# Altium schematic symbol library 分立器件.SchLib: 215 symbols (part 2 of 2)
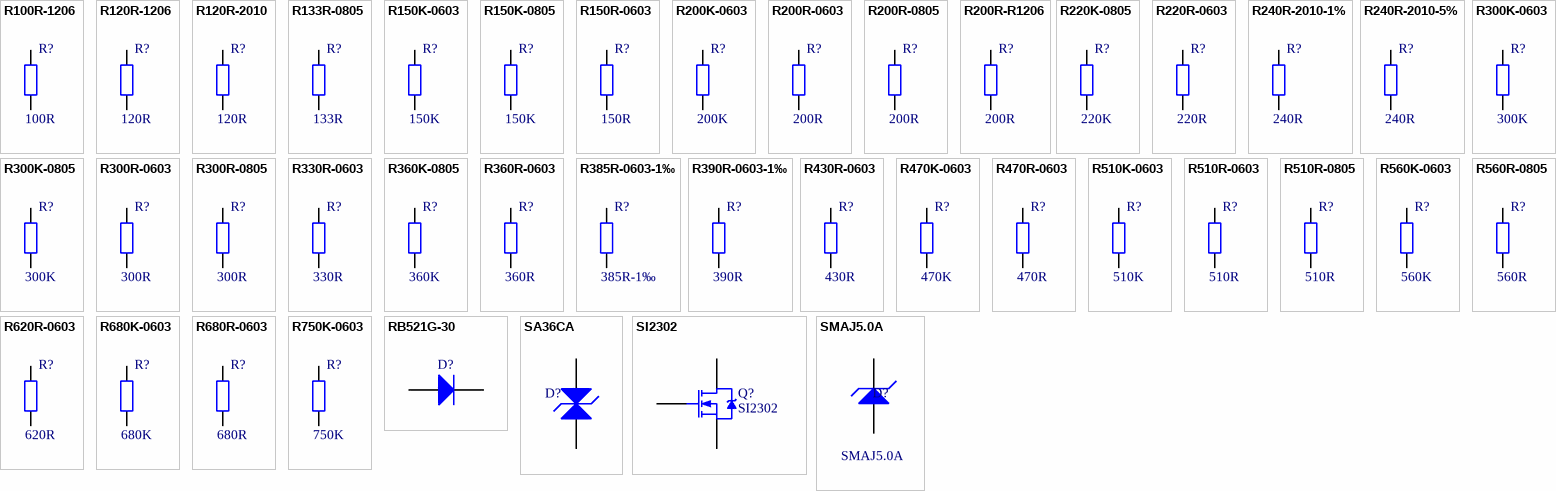
[diagram p6: symbols R100R-1206 to SMAJ5.0A]

## R200R-0805
designator R?  value 200R  (hidden comment: *)
Pb-free,0805,200Ω,1%,1/8W,±100PPM,100V,-55℃～155℃; Part Number: 3DZ0030033; specification: Pb-free,0805,200Ω,1%,1/8W,±100PPM,100V,-55℃～155℃
footprint R0805L (Footprint not found)
pins: 1, 2

## R200R-R1206
designator R?  value 200R  (hidden comment: *)
Pb-free,1206,200Ω,5%,1/4W,±200PPM,200V,-55℃～155℃; Part Number: 3DZ0030088; specification: Pb-free,1206,200Ω,5%,1/4W,±200PPM,200V,-55℃～155℃
footprint R1206L (Footprint not found)
pins: 1, 2

## R220K-0805
designator R?  value 220K  (hidden comment: *)
Pb-free,0805,220kΩ,1%,1/8W,±100PPM,100V,-55℃～155℃; Part Number: 3DZ0030036; specification: Pb-free,0805,220kΩ,1%,1/8W,±100PPM,100V,-55℃～155℃
footprint R0805L (Footprint not found)
pins: 1, 2

## R220R-0603
designator R?  value 220R  (hidden comment: *)
Pb-free, 0603,220Ω, 1%, 1/16w, ±200PPM, 50V,-55℃～155℃; Part Number: 3DZ0030037; specification: Pb-free, 0603,220Ω, 1%, 1/16w, ±200PPM, 50V,-55℃～155℃
footprint R0603L (Chip Inductor; Body 1.6x0.8mm (LxW typ))
pins: 1, 2

## R240R-2010-1%
designator R?  value 240R  (hidden comment: *)
Pb-free,2010,240Ω,1%,1W,±100PPM,200V,-55℃～155℃; Part Number: 3DZ0030104; specification: Pb-free,2010,240Ω,1%,1W,±100PPM,200V,-55℃～155℃
footprint R2010L (Footprint not found)
pins: 1, 2

## R240R-2010-5%
designator R?  value 240R  (hidden comment: *)
Pb-free,2010,240Ω,5%,1W,±100PPM,200V,-55℃～155℃; Part Number: 3DZ0030100; specification: Pb-free,2010,240Ω,5%,1W,±100PPM,200V,-55℃～155℃
footprint R2010L (Footprint not found)
pins: 1, 2

## R300K-0603
designator R?  value 300K  (hidden comment: *)
Pb-free, 0603, 300kΩ, 1%, 1/16w, ±200PPM, 50V,-55℃～155℃; Part Number: 3DZ0030043; specification: Pb-free, 0603, 300kΩ, 1%, 1/16w, ±200PPM, 50V,-55℃～155℃
footprint R0603L (Chip Inductor; Body 1.6x0.8mm (LxW typ))
pins: 1, 2

## R300K-0805
designator R?  value 300K  (hidden comment: *)
Pb-free,0805,300kΩ,1%,1/8W,±100PPM,100V,-55℃～155℃; Part Number: 3DZ0030044; specification: Pb-free,0805,300kΩ,1%,1/8W,±100PPM,100V,-55℃～155℃
footprint R0805L (Footprint not found)
pins: 1, 2

## R300R-0603
designator R?  value 300R  (hidden comment: *)
Pb-free,0603,300Ω,1%,1/16w,±200PPM,50V,-55℃～155℃; Part Number: 3DZ0030045; specification: Pb-free,0603,300Ω,1%,1/16w,±200PPM,50V,-55℃～155℃
footprint R0603L (Chip Inductor; Body 1.6x0.8mm (LxW typ))
pins: 1, 2

## R300R-0805
designator R?  value 300R  (hidden comment: *)
Pb-free,0805,300Ω,1%,1/8W,±100PPM,100V,-55℃～155℃; Part Number: 3DZ0030046; specification: Pb-free,0805,300Ω,1%,1/8W,±100PPM,100V,-55℃～155℃
footprint R0805L (Footprint not found)
pins: 1, 2

## R330R-0603
designator R?  value 330R  (hidden comment: *)
Pb-free,0603,330Ω,1%,1/16w,±200PPM,50V,-55℃～155℃; Part Number: 3DZ0030077; specification: Pb-free,0603,330Ω,1%,1/16w,±200PPM,50V,-55℃～155℃
footprint R0603L (Chip Inductor; Body 1.6x0.8mm (LxW typ))
pins: 1, 2

## R360K-0805
designator R?  value 360K  (hidden comment: *)
Pb-free,0603,360kΩ,1%,1/16w,±200PPM,50V,-55℃～155℃; Part Number: 3DZ0030048; specification: Pb-free,0603,360kΩ,1%,1/16w,±200PPM,50V,-55℃～155℃
footprint R0805L (Footprint not found)
pins: 1, 2

## R360R-0603
designator R?  value 360R  (hidden comment: *)
Pb-free,0603,360Ω,1%,1/16W,±100PPM,50V,-55℃～155℃; Part Number: 3DZ0030102; specification: Pb-free,0603,360Ω,1%,1/16W,±100PPM,50V,-55℃～155℃
footprint R0603L (Chip Inductor; Body 1.6x0.8mm (LxW typ))
pins: 1, 2

## R385R-0603-1‰
designator R?  value 385R-1‰  (hidden comment: R385R-0603-1‰)
Pb-free,贴片高精密电阻,385Ω,0603,±1‰,1/16W,±50PPM,50V,-55℃～155℃; Part Number: 3DZ0032001; specification: Pb-free,贴片高精密电阻,385Ω,0603,±1‰,1/16W,±50PPM,50V,-55℃～155℃
footprint R0603L (Footprint not found)
pins: 1, 2

## R390R-0603-1‰
designator R?  value 390R  (hidden comment: R390R-0603-1‰)
Pb-free,贴片高精密电阻,390Ω,0603,±1‰,1/16W,±50PPM,50V,-55℃～155℃; Part Number: 3DZ0032004; specification: Pb-free,贴片高精密电阻,390Ω,0603,±1‰,1/16W,±50PPM,50V,-55℃～155℃
footprint R0603L (Footprint not found)
pins: 1, 2

## R430R-0603
designator R?  value 430R  (hidden comment: *)
Pb-free,0603,430Ω,1%,1/16W,±200PPM,50V,-55℃～155℃; Part Number: 3DZ0030095; specification: Pb-free,0603,430Ω,1%,1/16W,±200PPM,50V,-55℃～155℃
footprint R0603L (Chip Inductor; Body 1.6x0.8mm (LxW typ))
pins: 1, 2

## R470K-0603
designator R?  value 470K  (hidden comment: *)
Pb-free,0603,470kΩ,1%,1/16w,±200PPM,50V,-55℃～155℃; Part Number: 3DZ0030053; specification: Pb-free,0603,470kΩ,1%,1/16w,±200PPM,50V,-55℃～155℃
footprint R0603L (Chip Inductor; Body 1.6x0.8mm (LxW typ))
pins: 1, 2

## R470R-0603
designator R?  value 470R  (hidden comment: *)
Pb-free,0603,470Ω,1%,1/16w,±200PPM,50V,-55℃～155℃; Part Number: 3DZ0030107; specification: Pb-free,0603,470Ω,1%,1/16w,±200PPM,50V,-55℃～155℃
footprint R0603L (Chip Inductor; Body 1.6x0.8mm (LxW typ))
pins: 1, 2

## R510K-0603
designator R?  value 510K  (hidden comment: *)
Pb_free,0603,510K,1%,1/16W,±200PPM,50V,-55℃～155℃; Part Number: 3DZ0030093; specification: Pb_free,0603,510K,1%,1/16W,±200PPM,50V,-55℃～155℃
footprint R0603L (Chip Inductor; Body 1.6x0.8mm (LxW typ))
pins: 1, 2

## R510R-0603
designator R?  value 510R  (hidden comment: *)
Pb-free,0603,510Ω,1%,1/16w,±200PPM,50V,-55℃～155℃; Part Number: 3DZ0030058; specification: Pb-free,0603,510Ω,1%,1/16w,±200PPM,50V,-55℃～155℃
footprint R0603L (Chip Inductor; Body 1.6x0.8mm (LxW typ))
pins: 1, 2

## R510R-0805
designator R?  value 510R  (hidden comment: *)
Pb-free,0805,510Ω,1%,1/8W,±100PPM,100V,-55℃～155℃; Part Number: 3DZ0030059; specification: Pb-free,0805,510Ω,1%,1/8W,±100PPM,100V,-55℃～155℃
footprint R0805L (Footprint not found)
pins: 1, 2

## R560K-0603
designator R?  value 560K  (hidden comment: *)
Pb-free,0603,560kΩ,1%,1/16w,±200PPM,50V,-55℃～155℃; Part Number: 3DZ0030086; specification: Pb-free,0603,560kΩ,1%,1/16w,±200PPM,50V,-55℃～155℃
footprint R0603L (Chip Inductor; Body 1.6x0.8mm (LxW typ))
pins: 1, 2

## R560R-0805
designator R?  value 560R  (hidden comment: *)
Pb-free,0805,560Ω,1%,1/8W,±100PPM,100V,-55℃～155℃; Part Number: 3DZ0030063; specification: Pb-free,0805,560Ω,1%,1/8W,±100PPM,100V,-55℃～155℃
footprint R0805L (Footprint not found)
pins: 1, 2

## R620R-0603
designator R?  value 620R  (hidden comment: *)
Pb-free,0603,620Ω,1%,1/16w,±200PPM,50V,-55℃～155℃; Part Number: 3DZ0030068; specification: Pb-free,0603,620Ω,1%,1/16w,±200PPM,50V,-55℃～155℃
footprint R0603L (Chip Inductor; Body 1.6x0.8mm (LxW typ))
pins: 1, 2

## R680K-0603
designator R?  value 680K  (hidden comment: *)
Pb-free,0603,680kΩ,1%,1/16w,±200PPM,50V,-55℃～155℃; Part Number: 3DZ0030091; specification: Pb-free,0603,680kΩ,1%,1/16w,±200PPM,50V,-55℃～155℃
footprint R0603L (Chip Inductor; Body 1.6x0.8mm (LxW typ))
pins: 1, 2

## R680R-0603
designator R?  value 680R  (hidden comment: *)
Pb-free,0603,680Ω,1%,1/16w,±200PPM,50V,-55℃～155℃; Part Number: 3DZ0030069; specification: Pb-free,0603,680Ω,1%,1/16w,±200PPM,50V,-55℃～155℃
footprint R0603L (Chip Inductor; Body 1.6x0.8mm (LxW typ))
pins: 1, 2

## R750K-0603
designator R?  value 750K  (hidden comment: *)
Pb-free,0603,750kΩ,1%,1/16w,±200PPM,50V,-55℃～155℃; Part Number: 3DZ0030089; specification: Pb-free,0603,750kΩ,1%,1/16w,±200PPM,50V,-55℃～155℃
footprint R0603L (Chip Inductor; Body 1.6x0.8mm (LxW typ))
pins: 1, 2

## RB521G-30
designator D?  (value not drawn)
Pb-free,贴片二极管,RB521G-30,VR=30V,Io=100mA,Ifsm（60Hz·1cyc）=500mA,Tj=125℃,Tstg=-40~+125℃,SOD-523; Part Number: 3DZ0060005; Value: RB521G-30; specification: Pb-free,贴片二极管,RB521G-30,VR=30V,Io=100mA,Ifsm（60Hz·1cyc）=500mA,Tj=125℃,Tstg=-40~+125℃,SOD-523
footprint SOD523
pins: 1 A, 2 K

## SA36CA
designator D?  (value not drawn)
Pb-free,直插瞬态抑制二极管,SA36CA,Vrm=36V,Vbr=40～44.2V,Ppk=500W,Ifsm=70A,DO-15,-55～150℃; Part Number: 3DZ0061003; Value: SA36CA; specification: Pb-free,直插瞬态抑制二极管,SA36CA,Vrm=36V,Vbr=40～44.2V,Ppk=500W,Ifsm=70A,DO-15,-55～150℃
footprint DO-15H
pins: 1 A, 2 K

## SI2302
designator Q?
Pb-free,场效应管,SI2302,N沟道,Vds=20V,Vgs=+8V,ID=2.8A,0.07Ω,SOT23,–55~+150℃; Part Number: 3DZ0065102; Value: SI2302; Specification: Pb-free,场效应管,SI2302,N沟道,Vds=20V,Vgs=+8V,ID=2.8A,0.07Ω,SOT23,–55~+150℃
footprint SOT23A (SOT-23; 3 Leads; Body 3.0 x 2.5 mm, inc. leads (LxW max))
pins: 1 G, 2 S, 3 D

## SMAJ5.0A
designator D?
Pb-free,贴片瞬态抑制二极管,SMAJ5.0A,Vrm=5.0V,Vbr=6.4～7.25V,Ppk=400W,Ifsm=40A,SMA(DO-214AC),-55～150℃; Part Number: 3DZ0060104; Specification: Pb-free,贴片瞬态抑制二极管,SMAJ5.0A,Vrm=5.0V,Vbr=6.4～7.25V,Ppk=400W,Ifsm=40A,SMA(DO-214AC),-55～150℃; Value: SMAJ5.0A
footprint DO-214AC(SMA)
pins: 1 A, 2 K

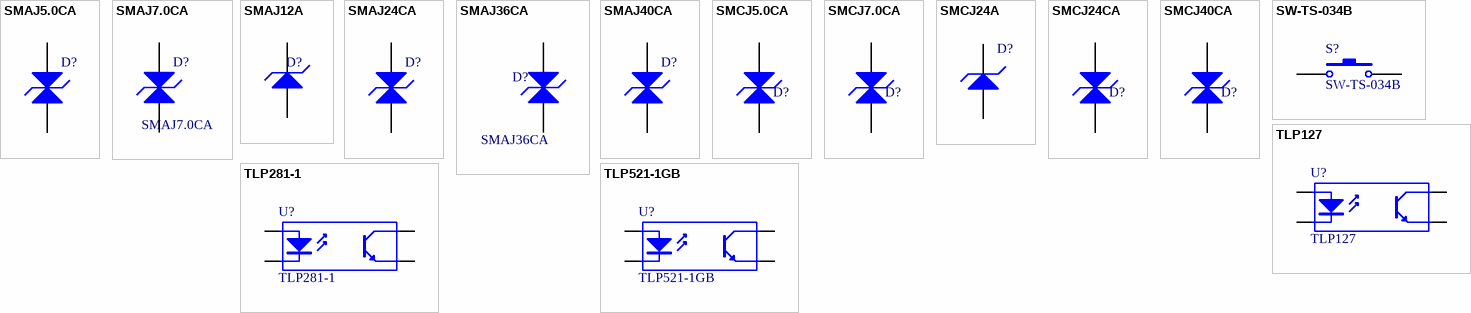
[diagram p5: symbols SMAJ5.0CA to TLP521-1GB]

## SMAJ5.0CA
designator D?  (value not drawn)
Pb-free,贴片瞬态抑制二极管,SMAJ5.0CA,Vrm=5.0V,Vbr=6.4～7.25V,Ppk=400W,Ifsm=40A,SMA(DO-214AC),-55～150℃; Part Number: 3DZ0060107; Value: SMAJ5.0CA; specification: Pb-free,贴片瞬态抑制二极管,SMAJ5.0CA,Vrm=5.0V,Vbr=6.4～7.25V,Ppk=400W,Ifsm=40A,SMA(DO-214AC),-55～150℃
footprint DO-214AC(SMA)
pins: 1 A, 2 K

## SMAJ7.0CA
designator D?
Pb-free,贴片瞬态抑制二极管,SMAJ7.0CA,Vrm=7.0V,Vbr=7.78～8.60V,Ppk=400W,Ifsm=40A,SMA(DO-214AC),-55～150℃; Part Number: 3DZ0060108; Specification: Pb-free,贴片瞬态抑制二极管,SMAJ7.0CA,Vrm=7.0V,Vbr=7.78～8.60V,Ppk=400W,Ifsm=40A,SMA(DO-214AC),-55～150℃; Value: SMAJ7.0CA
footprint DO-214AC(SMA)
pins: 1 A, 2 K

## SMAJ12A
designator D?  (value not drawn)
Pb-free,贴片瞬态抑制二极管,SMAJ12A,Vrm=12V,Vbr=26.7～29.5V,Ppk=400W,Ifsm=200A,SMA(DO-214AC),-55～150℃; Part Number: 3DZ0060101; Value: SMAJ12A; specification: Pb-free,贴片瞬态抑制二极管,SMAJ12A,Vrm=12V,Vbr=26.7～29.5V,Ppk=400W,Ifsm=200A,SMA(DO-214AC),-55～150℃
footprint DO-214AC(SMA)
pins: 1 A, 2 K

## SMAJ24CA
designator D?  (value not drawn)
Pb-free,贴片瞬态抑制二极管,SMAJ24CA,Vrm=24V,Vbr=26.7～29.5V,Ppk=400W,Ifsm=200A,SMA(DO-214AC),-55～150℃; Part Number: 3DZ0060102; Value: SMAJ24CA; specification: Pb-free,贴片瞬态抑制二极管,SMAJ24CA,Vrm=24V,Vbr=26.7～29.5V,Ppk=400W,Ifsm=200A,SMA(DO-214AC),-55～150℃
footprint DO-214AC(SMA)
pins: 1 A, 2 K

## SMAJ36CA
designator D?
Pb-free,贴片瞬态抑制二极管,SMAJ36CA,Vrm=36V,Vbr=40～44.2V,Ppk=400W,Ifsm=200A,SMA(DO-214AC),-55～150℃; Part Number: 3DZ0060105; Specification: Pb-free,贴片瞬态抑制二极管,SMAJ36CA,Vrm=36V,Vbr=40～44.2V,Ppk=400W,Ifsm=200A,SMA(DO-214AC),-55～150℃; Value: SMAJ36CA
footprint DO-214AC(SMA)
pins: 1 A, 2 K

## SMAJ40CA
designator D?  (value not drawn)
Pb-free,贴片瞬态抑制二极管,SMAJ40CA,Vrm=40V,Vbr=44.4～49.1V,Ppk=400W,Ifsm=200A,SMA(DO-214AC),-55～150℃; Part Number: 3DZ0060103; Value: SMAJ40CA; specification: Pb-free,贴片瞬态抑制二极管,SMAJ40CA,Vrm=40V,Vbr=44.4～49.1V,Ppk=400W,Ifsm=200A,SMA(DO-214AC),-55～150℃
footprint DO-214AC(SMA)
pins: 1 A, 2 K

## SMCJ5.0CA
designator D?  (value not drawn)
Pb-free,贴片瞬态抑制二极管,SMCJ5.0CA,Vrm=5.0V,Vbr=6.4~7.0V,Ppk=1500W,Ifsm=200A,SMC(DO-214AB),-55～150℃; Part Number: 3DZ0060109; Value: SMCJ5.0CA; specification: Pb-free,贴片瞬态抑制二极管,SMCJ5.0CA,Vrm=5.0V,Vbr=6.4~7.0V,Ppk=1500W,Ifsm=200A,SMC(DO-214AB),-55～150℃
footprint DO-214AB(SMC)
pins: 1 A, 2 K

## SMCJ7.0CA
designator D?  (value not drawn)
Pb-free,贴片瞬态抑制二极管,SMCJ7.0CA,Vrm=7.0V,Vbr=7.78～8.60V,Ppk=1500W,Ifsm=200A,SMC(DO-214AB),-55～150℃; Part Number: 3DZ0060110; Value: SMCJ7.0CA; specification: Pb-free,贴片瞬态抑制二极管,SMCJ7.0CA,Vrm=7.0V,Vbr=7.78～8.60V,Ppk=1500W,Ifsm=200A,SMC(DO-214AB),-55～150℃
footprint DO-214AB(SMC)
pins: 1 A, 2 K

## SMCJ24A
designator D?  (value not drawn)
Pb-free,贴片瞬态抑制二极管,SMCJ24A,Vrm=24V,Vbr=26.7～29.5V,Ppk=1500W,Ifsm=200A,SMC(DO-214AB),-55～150℃; Part Number: 3DZ0060106; Value: SMCJ24A; specification: Pb-free,贴片瞬态抑制二极管,SMCJ24A,Vrm=24V,Vbr=26.7～29.5V,Ppk=1500W,Ifsm=200A,SMC(DO-214AB),-55～150℃
footprint DO-214AB(SMC)
pins: 1 A, 2 K

## SMCJ24CA
designator D?  (value not drawn)
Pb-free,贴片瞬态抑制二极管,SMCJ24CA,Vrm=24V,Vbr=26.7～29.5V,Ppk=1500W,Ifsm=200A,SMC(DO-214AB),-55～150℃; Part Number: 3DZ0060403; Value: SMCJ24CA; specification: Pb-free,贴片瞬态抑制二极管,SMCJ24CA,Vrm=24V,Vbr=26.7～29.5V,Ppk=1500W,Ifsm=200A,SMC(DO-214AB),-55～150℃
footprint DO-214AB(SMC)
pins: 1 A, 2 K

## SMCJ40CA
designator D?  (value not drawn)
Pb-free,贴片瞬态抑制二极管,SMAJ40CA,Vrm=40V,Vbr=44.4～49.1V,Ppk=400W,Ifsm=200A,SMA(DO-214AC),-55～150℃; Part Number: 3DZ0060402; Value: SMCJ40CA; specification: Pb-free,贴片瞬态抑制二极管,SMAJ40CA,Vrm=40V,Vbr=44.4～49.1V,Ppk=400W,Ifsm=200A,SMA(DO-214AC),-55～150℃
footprint DO-214AB(SMC)
pins: 1 A, 2 K

## SW-TS-034B
designator S?
Pb-free,贴片轻触按键,TS-034B，DC12V/50mA,导通电阻：30mΩ(MAX),按键行程：0.25±0.1mm,寿命：50000次,SMD6*6,-20~70℃; Part Number: 3DZ9990103; Specification: Pb-free,贴片轻触按键,TS-034B，DC12V/50mA,导通电阻：30mΩ(MAX),按键行程：0.25±0.1mm,寿命：50000次,SMD6*6,-20~70℃; Value: TS-034B
footprint SW-6-6-SMD
pins: 1, 2

## TLP127
designator U?
Pb-Free,贴片光耦,TLP127,Vf=1.15V,Vce=0.3V,VCCmax=200V,IF=16mA（25mAmax),Icmax=120mA,SOP-4-2.54,-25~85℃; Part Number: 3DZ0020404; Value: TLP127; Specification: Pb-Free,贴片光耦,TLP127,Vf=1.15V,Vce=0.3V,VCCmax=200V,IF=16mA（25mAmax),Icmax=120mA,SOP-4-2.54,-25~85℃
footprint SO-4-2.54 (Small Outline; 8 Leads; Body Width 3.9 mm; Pitch 1.27 mm)
pins: 1 A "Anode", 2 K "Cathode", 3 E "Emitter", 4 C "Collector"

## TLP281-1
designator U?
Pb-Free,贴片光耦,TLP281-1,Vf=1.15V,Vce=0.1V,Vceo=80V,IF=50mAmax,Icmax=50mA,SO-4-1.27,-55~100℃; Part Number: 3DZ0020402; Value: TLP281-1; Specification: Pb-Free,贴片光耦,TLP281-1,Vf=1.15V,Vce=0.1V,Vceo=80V,IF=50mAmax,Icmax=50mA,SO-4-1.27,-55~100℃
footprint SO-4-1.27 (Small Outline; 8 Leads; Body Width 3.9 mm; Pitch 1.27 mm)
pins: 1 A "Anode", 2 K "Cathode", 3 E "Emitter", 4 C "Collector"

## TLP521-1GB
designator U?
Pb-Free,贴片光耦,TLP521-1GB,Vf=1.15V,Vce=0.2V,VCCmax=24V,IF=16mA（25mAmax),Icmax=10mA,SO-4-2.54,-25~85℃; Part Number: 3DZ0020403; Value: TLP521-1GB; Specification: Pb-Free,贴片光耦,TLP521-1GB,Vf=1.15V,Vce=0.2V,VCCmax=24V,IF=16mA（25mAmax),Icmax=10mA,SO-4-2.54,-25~85℃
footprint SO-4-2.54 (Small Outline; 8 Leads; Body Width 3.9 mm; Pitch 1.27 mm)
pins: 1 A "Anode", 2 K "Cathode", 3 E "Emitter", 4 C "Collector"